# Altium integrated library NSC Filter Switched Capacitor.IntLib: 42 symbols
Pins are listed as number, name and electrical type; pins without a type are passive.

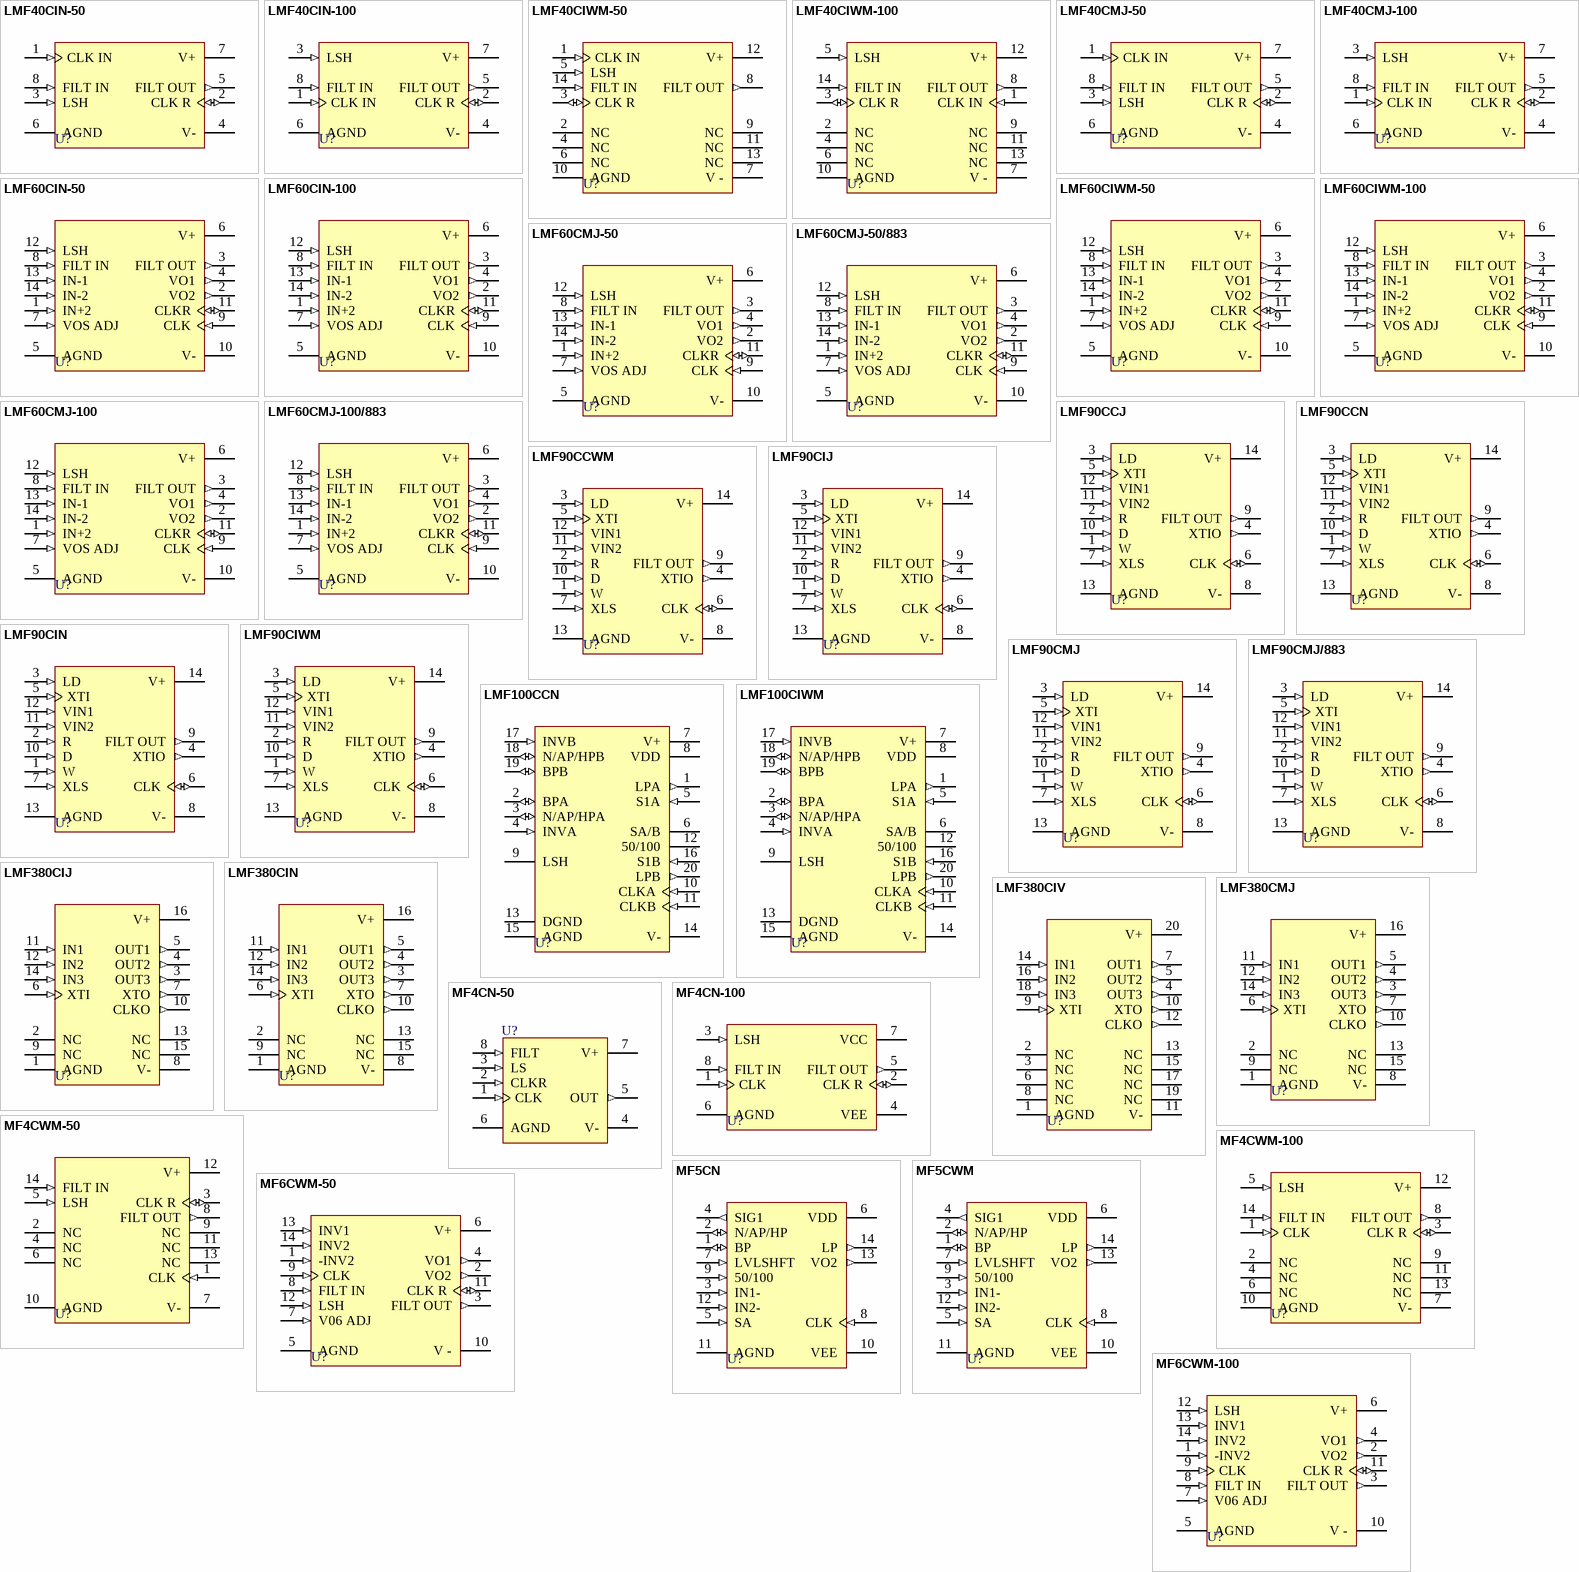
[diagram p0: symbols LMF40CIN-50 to MF6CWM-100]

## LMF40CIN-50
designator U?
High-Performance 4th Order Switched-Capacitor Butterworth Low-Pass Filter; ComponentAvailability: Obsolete; Published: 15-Apr-2002; LatestRevisionDate: 06-Jun-2005; LatestRevisionNote: Stylized 3D Model Added.; DatasheetVersion: 1995; PackageVersion: Sep-1997; PackageReference: N08E; Publisher: Altium Limited; PackageDescription: DIP; 8 Leads; Row Spacing 7.62 mm; Pitch 2.54 mm; ComponentLink1Description: Manufacturer Link; ComponentLink1URL: http://www.national.com/; ComponentLink2Description: Discontinuation Notice; ComponentLink2URL: http://www.national.com/obs/obsolescence.txt
footprint N08E (DIP; 8 Leads; Row Spacing 7.62 mm; Pitch 2.54 mm)
3D model N08E (DIP; 8 Leads; Row Spacing 7.62 mm; Pitch 2.54 mm)
pins: 1 CLK IN (in), 2 CLK R (io), 3 LSH (in), 4 V- (power), 5 FILT OUT (out), 6 AGND (power), 7 V+ (power), 8 FILT IN (in)

## LMF40CIN-100
designator U?
High-Performance 4th Order Switched-Capacitor Butterworth Low-Pass Filter; ComponentAvailability: Obsolete; Published: 15-Apr-2002; LatestRevisionDate: 06-Jun-2005; LatestRevisionNote: Stylized 3D Model Added.; DatasheetVersion: 1995; PackageVersion: Sep-1997; PackageReference: N08E; Publisher: Altium Limited; PackageDescription: DIP; 8 Leads; Row Spacing 7.62 mm; Pitch 2.54 mm; ComponentLink1Description: Manufacturer Link; ComponentLink1URL: http://www.national.com/; ComponentLink2Description: Discontinuation Notice; ComponentLink2URL: http://www.national.com/obs/obsolescence.txt
footprint N08E (DIP; 8 Leads; Row Spacing 7.62 mm; Pitch 2.54 mm)
3D model N08E (DIP; 8 Leads; Row Spacing 7.62 mm; Pitch 2.54 mm)
pins: 1 CLK IN (in), 2 CLK R (io), 3 LSH (in), 4 V- (power), 5 FILT OUT (out), 6 AGND (power), 7 V+ (power), 8 FILT IN (in)

## LMF40CIWM-50
designator U?
High-Performance 4th Order Switched-Capacitor Butterworth Low-Pass Filter; ComponentAvailability: Obsolete; Published: 15-Apr-2002; LatestRevisionDate: 13-Apr-2006; LatestRevisionNote: IPC-7351 Footprint Added.; DatasheetVersion: 1995; PackageVersion: 2000; PackageReference: M14B; Publisher: Altium Limited; PackageDescription: 14-Pin Small Outline Integrated Circuit 1.27 mm Pitch; Code_JEDEC: MS-013-AF; Code_IPC: SOIC127P1030-14; ComponentLink1Description: Manufacturer Link; ComponentLink1URL: http://www.national.com/; ComponentLink2Description: Discontinuation Notice; ComponentLink2URL: http://www.national.com/obs/obsolescence.txt
footprint M14B_N (SOIC, 14-Leads, Body 9x7.5mm, Pitch 1.27mm, IPC Medium Density)
footprint M14B_L (SOIC, 14-Leads, Body 9x7.5mm, Pitch 1.27mm, IPC High Density)
footprint M14B_M (SOIC, 14-Leads, Body 9x7.5mm, Pitch 1.27mm, IPC Low Density)
3D model M14B (14-Pin Small Outline Integrated Circuit 1.27 mm Pitch)
pins: 1 CLK IN (in), 2 NC, 3 CLK R (io), 4 NC, 5 LSH (in), 6 NC, 7 V - (power), 8 FILT OUT (out), 9 NC, 10 AGND (power), 11 NC, 12 V+ (power), 13 NC, 14 FILT IN (in)

## LMF40CIWM-100
designator U?
High-Performance 4th Order Switched-Capacitor Butterworth Low-Pass Filter; ComponentAvailability: Obsolete; Published: 15-Apr-2002; LatestRevisionDate: 13-Apr-2006; LatestRevisionNote: IPC-7351 Footprint Added.; DatasheetVersion: 1995; PackageVersion: 2000; PackageReference: M14B; Publisher: Altium Limited; PackageDescription: 14-Pin Small Outline Integrated Circuit 1.27 mm Pitch; Code_JEDEC: MS-013-AF; Code_IPC: SOIC127P1030-14; ComponentLink1Description: Manufacturer Link; ComponentLink1URL: http://www.national.com/; ComponentLink2Description: Discontinuation Notice; ComponentLink2URL: http://www.national.com/obs/obsolescence.txt
footprint M14B_N (SOIC, 14-Leads, Body 9x7.5mm, Pitch 1.27mm, IPC Medium Density)
footprint M14B_L (SOIC, 14-Leads, Body 9x7.5mm, Pitch 1.27mm, IPC High Density)
footprint M14B_M (SOIC, 14-Leads, Body 9x7.5mm, Pitch 1.27mm, IPC Low Density)
3D model M14B (14-Pin Small Outline Integrated Circuit 1.27 mm Pitch)
pins: 1 CLK IN (in), 2 NC, 3 CLK R (io), 4 NC, 5 LSH (in), 6 NC, 7 V - (power), 8 FILT OUT (out), 9 NC, 10 AGND (power), 11 NC, 12 V+ (power), 13 NC, 14 FILT IN (in)

## LMF40CMJ-50
designator U?
High-Performance 4th Order Switched-Capacitor Butterworth Low-Pass Filter; ComponentAvailability: Obsolete; Published: 15-Apr-2002; LatestRevisionDate: 06-Jun-2005; LatestRevisionNote: Stylized 3D Model Added.; DatasheetVersion: 1995; PackageVersion: 2000; PackageReference: J08A; Publisher: Altium Limited; PackageDescription: DIP; 8 Leads; Row Spacing 7.62 mm; Pitch 2.54 mm; ComponentLink1Description: Manufacturer Link; ComponentLink1URL: http://www.national.com/; ComponentLink2Description: Discontinuation Notice; ComponentLink2URL: http://www.national.com/obs/obsolescence.txt
footprint J08A (DIP; 8 Leads; Row Spacing 7.62 mm; Pitch 2.54 mm)
3D model N08E (DIP; 8 Leads; Row Spacing 7.62 mm; Pitch 2.54 mm)
pins: 1 CLK IN (in), 2 CLK R (io), 3 LSH (in), 4 V- (power), 5 FILT OUT (out), 6 AGND (power), 7 V+ (power), 8 FILT IN (in)

## LMF40CMJ-100
designator U?
High-Performance 4th Order Switched-Capacitor Butterworth Low-Pass Filter; ComponentAvailability: Obsolete; Published: 15-Apr-2002; LatestRevisionDate: 06-Jun-2005; LatestRevisionNote: Stylized 3D Model Added.; DatasheetVersion: 1995; PackageVersion: 2000; PackageReference: J08A; Publisher: Altium Limited; PackageDescription: DIP; 8 Leads; Row Spacing 7.62 mm; Pitch 2.54 mm; ComponentLink1Description: Manufacturer Link; ComponentLink1URL: http://www.national.com/; ComponentLink2Description: Discontinuation Notice; ComponentLink2URL: http://www.national.com/obs/obsolescence.txt
footprint J08A (DIP; 8 Leads; Row Spacing 7.62 mm; Pitch 2.54 mm)
3D model N08E (DIP; 8 Leads; Row Spacing 7.62 mm; Pitch 2.54 mm)
pins: 1 CLK IN (in), 2 CLK R (io), 3 LSH (in), 4 V- (power), 5 FILT OUT (out), 6 AGND (power), 7 V+ (power), 8 FILT IN (in)

## LMF60CIN-50
designator U?
High-Performance 6th Order Switched Capacitor Butterworth Low-Pass Filter; ComponentAvailability: Obsolete; Published: 15-Apr-2002; LatestRevisionDate: 06-Jun-2005; LatestRevisionNote: Stylized 3D Model Added.; DatasheetVersion: May-1996; PackageVersion: 2000; PackageReference: N14A; Publisher: Altium Limited; PackageDescription: DIP; 14 Leads; Row Spacing 7.62 mm; Pitch 2.54 mm; ComponentLink1Description: Manufacturer Link; ComponentLink1URL: http://www.national.com/; ComponentLink2Description: Discontinuation Notice; ComponentLink2URL: http://www.national.com/obs/obsolescence.txt
footprint N14A (DIP; 14 Leads; Row Spacing 7.62 mm; Pitch 2.54 mm)
3D model N14A (DIP; 14 Leads; Row Spacing 7.62 mm; Pitch 2.54 mm)
pins: 1 IN+2 (in), 2 VO2 (out), 3 FILT OUT (out), 4 VO1 (out), 5 AGND (power), 6 V+ (power), 7 VOS ADJ (in), 8 FILT IN (in), 9 CLK (in), 10 V- (power), 11 CLKR (io), 12 LSH (in), 13 IN-1 (in), 14 IN-2 (in)

## LMF60CIN-100
designator U?
High-Performance 6th Order Switched Capacitor Butterworth Low-Pass Filter; ComponentAvailability: Obsolete; Published: 15-Apr-2002; LatestRevisionDate: 06-Jun-2005; LatestRevisionNote: Stylized 3D Model Added.; DatasheetVersion: May-1996; PackageVersion: 2000; PackageReference: N14A; Publisher: Altium Limited; PackageDescription: DIP; 14 Leads; Row Spacing 7.62 mm; Pitch 2.54 mm; ComponentLink1Description: Manufacturer Link; ComponentLink1URL: http://www.national.com/; ComponentLink2Description: Discontinuation Notice; ComponentLink2URL: http://www.national.com/obs/obsolescence.txt
footprint N14A (DIP; 14 Leads; Row Spacing 7.62 mm; Pitch 2.54 mm)
3D model N14A (DIP; 14 Leads; Row Spacing 7.62 mm; Pitch 2.54 mm)
pins: 1 IN+2 (in), 2 VO2 (out), 3 FILT OUT (out), 4 VO1 (out), 5 AGND (power), 6 V+ (power), 7 VOS ADJ (in), 8 FILT IN (in), 9 CLK (in), 10 V- (power), 11 CLKR (io), 12 LSH (in), 13 IN-1 (in), 14 IN-2 (in)

## LMF60CIWM-50
designator U?
High-Performance 6th Order Switched Capacitor Butterworth Low-Pass Filter; ComponentAvailability: Obsolete; Published: 15-Apr-2002; LatestRevisionDate: 13-Apr-2006; LatestRevisionNote: IPC-7351 Footprint Added.; DatasheetVersion: May-1996; PackageVersion: 2000; PackageReference: M14B; Publisher: Altium Limited; PackageDescription: 14-Pin Small Outline Integrated Circuit 1.27 mm Pitch; Code_JEDEC: MS-013-AF; Code_IPC: SOIC127P1030-14; ComponentLink1Description: Manufacturer Link; ComponentLink1URL: http://www.national.com/; ComponentLink2Description: Discontinuation Notice; ComponentLink2URL: http://www.national.com/obs/obsolescence.txt
footprint M14B_N (SOIC, 14-Leads, Body 9x7.5mm, Pitch 1.27mm, IPC Medium Density)
footprint M14B_L (SOIC, 14-Leads, Body 9x7.5mm, Pitch 1.27mm, IPC High Density)
footprint M14B_M (SOIC, 14-Leads, Body 9x7.5mm, Pitch 1.27mm, IPC Low Density)
3D model M14B (14-Pin Small Outline Integrated Circuit 1.27 mm Pitch)
pins: 1 IN+2 (in), 2 VO2 (out), 3 FILT OUT (out), 4 VO1 (out), 5 AGND (power), 6 V+ (power), 7 VOS ADJ (in), 8 FILT IN (in), 9 CLK (in), 10 V- (power), 11 CLKR (io), 12 LSH (in), 13 IN-1 (in), 14 IN-2 (in)

## LMF60CIWM-100
designator U?
High-Performance 6th Order Switched Capacitor Butterworth Low-Pass Filter; ComponentAvailability: Obsolete; Published: 15-Apr-2002; LatestRevisionDate: 13-Apr-2006; LatestRevisionNote: IPC-7351 Footprint Added.; DatasheetVersion: May-1996; PackageVersion: 2000; PackageReference: M14B; Publisher: Altium Limited; PackageDescription: 14-Pin Small Outline Integrated Circuit 1.27 mm Pitch; Code_JEDEC: MS-013-AF; Code_IPC: SOIC127P1030-14; ComponentLink1Description: Manufacturer Link; ComponentLink1URL: http://www.national.com/; ComponentLink2Description: Discontinuation Notice; ComponentLink2URL: http://www.national.com/obs/obsolescence.txt
footprint M14B_N (SOIC, 14-Leads, Body 9x7.5mm, Pitch 1.27mm, IPC Medium Density)
footprint M14B_L (SOIC, 14-Leads, Body 9x7.5mm, Pitch 1.27mm, IPC High Density)
footprint M14B_M (SOIC, 14-Leads, Body 9x7.5mm, Pitch 1.27mm, IPC Low Density)
3D model M14B (14-Pin Small Outline Integrated Circuit 1.27 mm Pitch)
pins: 1 IN+2 (in), 2 VO2 (out), 3 FILT OUT (out), 4 VO1 (out), 5 AGND (power), 6 V+ (power), 7 VOS ADJ (in), 8 FILT IN (in), 9 CLK (in), 10 V- (power), 11 CLKR (io), 12 LSH (in), 13 IN-1 (in), 14 IN-2 (in)

## LMF60CMJ-50
designator U?
High-Performance 6th Order Switched Capacitor Butterworth Low-Pass Filter; ComponentAvailability: Obsolete; Published: 15-Apr-2002; LatestRevisionDate: 06-Jun-2005; LatestRevisionNote: Stylized 3D Model Added.; DatasheetVersion: May-1996; PackageVersion: 2000; PackageReference: J14A; Publisher: Altium Limited; PackageDescription: DIP; 14 Leads; Row Spacing 7.62 mm; Pitch 2.54 mm; ComponentLink1Description: Manufacturer Link; ComponentLink1URL: http://www.national.com/; ComponentLink2Description: Discontinuation Notice; ComponentLink2URL: http://www.national.com/obs/obsolescence.txt
footprint J14A (DIP; 14 Leads; Row Spacing 7.62 mm; Pitch 2.54 mm)
3D model J14A (DIP; 14 Leads; Row Spacing 7.62 mm; Pitch 2.54 mm)
pins: 1 IN+2 (in), 2 VO2 (out), 3 FILT OUT (out), 4 VO1 (out), 5 AGND (power), 6 V+ (power), 7 VOS ADJ (in), 8 FILT IN (in), 9 CLK (in), 10 V- (power), 11 CLKR (io), 12 LSH (in), 13 IN-1 (in), 14 IN-2 (in)

## LMF60CMJ-50/883
designator U?
High-Performance 6th Order Switched Capacitor Butterworth Low-Pass Filter; Published: 15-Apr-2002; LatestRevisionDate: 06-Jun-2005; LatestRevisionNote: Stylized 3D Model Added.; DatasheetVersion: May-1996; PackageVersion: 2000; PackageReference: J14A; Publisher: Altium Limited; PackageDescription: DIP; 14 Leads; Row Spacing 7.62 mm; Pitch 2.54 mm; ComponentLink1Description: Manufacturer Link; ComponentLink1URL: http://www.national.com/
footprint J14A (DIP; 14 Leads; Row Spacing 7.62 mm; Pitch 2.54 mm)
3D model J14A (DIP; 14 Leads; Row Spacing 7.62 mm; Pitch 2.54 mm)
pins: 1 IN+2 (in), 2 VO2 (out), 3 FILT OUT (out), 4 VO1 (out), 5 AGND (power), 6 V+ (power), 7 VOS ADJ (in), 8 FILT IN (in), 9 CLK (in), 10 V- (power), 11 CLKR (io), 12 LSH (in), 13 IN-1 (in), 14 IN-2 (in)

## LMF60CMJ-100
designator U?
High-Performance 6th Order Switched Capacitor Butterworth Low-Pass Filter; Published: 15-Apr-2002; LatestRevisionDate: 06-Jun-2005; LatestRevisionNote: Stylized 3D Model Added.; DatasheetVersion: May-1996; PackageVersion: 2000; PackageReference: J14A; Publisher: Altium Limited; PackageDescription: DIP; 14 Leads; Row Spacing 7.62 mm; Pitch 2.54 mm; ComponentLink1Description: Manufacturer Link; ComponentLink1URL: http://www.national.com/
footprint J14A (DIP; 14 Leads; Row Spacing 7.62 mm; Pitch 2.54 mm)
3D model J14A (DIP; 14 Leads; Row Spacing 7.62 mm; Pitch 2.54 mm)
pins: 1 IN+2 (in), 2 VO2 (out), 3 FILT OUT (out), 4 VO1 (out), 5 AGND (power), 6 V+ (power), 7 VOS ADJ (in), 8 FILT IN (in), 9 CLK (in), 10 V- (power), 11 CLKR (io), 12 LSH (in), 13 IN-1 (in), 14 IN-2 (in)

## LMF60CMJ-100/883
designator U?
High-Performance 6th Order Switched Capacitor Butterworth Low-Pass Filter; Published: 15-Apr-2002; LatestRevisionDate: 06-Jun-2005; LatestRevisionNote: Stylized 3D Model Added.; DatasheetVersion: May-1996; PackageVersion: 2000; PackageReference: J14A; Publisher: Altium Limited; PackageDescription: DIP; 14 Leads; Row Spacing 7.62 mm; Pitch 2.54 mm; ComponentLink1Description: Manufacturer Link; ComponentLink1URL: http://www.national.com/
footprint J14A (DIP; 14 Leads; Row Spacing 7.62 mm; Pitch 2.54 mm)
3D model J14A (DIP; 14 Leads; Row Spacing 7.62 mm; Pitch 2.54 mm)
pins: 1 IN+2 (in), 2 VO2 (out), 3 FILT OUT (out), 4 VO1 (out), 5 AGND (power), 6 V+ (power), 7 VOS ADJ (in), 8 FILT IN (in), 9 CLK (in), 10 V- (power), 11 CLKR (io), 12 LSH (in), 13 IN-1 (in), 14 IN-2 (in)

## LMF90CCJ
designator U?
4th Order Elliptic Notch Filter; Published: 15-Apr-2002; LatestRevisionDate: 06-Jun-2005; LatestRevisionNote: Stylized 3D Model Added.; PackageVersion: 2000; PackageReference: J14A; Publisher: Altium Limited; PackageDescription: DIP; 14 Leads; Row Spacing 7.62 mm; Pitch 2.54 mm; ComponentLink1Description: Manufacturer Link; ComponentLink1URL: http://www.national.com/
footprint J14A (DIP; 14 Leads; Row Spacing 7.62 mm; Pitch 2.54 mm)
3D model J14A (DIP; 14 Leads; Row Spacing 7.62 mm; Pitch 2.54 mm)
pins: 1 W (in), 2 R (in), 3 LD (in), 4 XTIO (out), 5 XTI (in), 6 CLK (io), 7 XLS (in), 8 V- (power), 9 FILT OUT (out), 10 D (in), 11 VIN2 (in), 12 VIN1 (in), 13 AGND (power), 14 V+ (power)

## LMF90CCN
designator U?
4th Order Elliptic Notch Filter; ComponentAvailability: Obsolete; Published: 15-Apr-2002; LatestRevisionDate: 06-Jun-2005; LatestRevisionNote: Stylized 3D Model Added.; PackageVersion: 2000; PackageReference: N14A; Publisher: Altium Limited; PackageDescription: DIP; 14 Leads; Row Spacing 7.62 mm; Pitch 2.54 mm; ComponentLink1Description: Manufacturer Link; ComponentLink1URL: http://www.national.com/; ComponentLink2Description: Discontinuation Notice; ComponentLink2URL: http://www.national.com/obs/obsolescence.txt
footprint N14A (DIP; 14 Leads; Row Spacing 7.62 mm; Pitch 2.54 mm)
3D model N14A (DIP; 14 Leads; Row Spacing 7.62 mm; Pitch 2.54 mm)
pins: 1 W (in), 2 R (in), 3 LD (in), 4 XTIO (out), 5 XTI (in), 6 CLK (io), 7 XLS (in), 8 V- (power), 9 FILT OUT (out), 10 D (in), 11 VIN2 (in), 12 VIN1 (in), 13 AGND (power), 14 V+ (power)

## LMF90CCWM
designator U?
4th Order Elliptic Notch Filter; ComponentAvailability: Obsolete; Published: 15-Apr-2002; LatestRevisionDate: 13-Apr-2006; LatestRevisionNote: IPC-7351 Footprint Added.; PackageVersion: 2000; PackageReference: M14B; Publisher: Altium Limited; PackageDescription: 14-Pin Small Outline Integrated Circuit 1.27 mm Pitch; Code_JEDEC: MS-013-AF; Code_IPC: SOIC127P1030-14; ComponentLink1Description: Manufacturer Link; ComponentLink1URL: http://www.national.com/; ComponentLink2Description: Discontinuation Notice; ComponentLink2URL: http://www.national.com/obs/obsolescence.txt
footprint M14B_N (SOIC, 14-Leads, Body 9x7.5mm, Pitch 1.27mm, IPC Medium Density)
footprint M14B_L (SOIC, 14-Leads, Body 9x7.5mm, Pitch 1.27mm, IPC High Density)
footprint M14B_M (SOIC, 14-Leads, Body 9x7.5mm, Pitch 1.27mm, IPC Low Density)
3D model M14B (14-Pin Small Outline Integrated Circuit 1.27 mm Pitch)
pins: 1 W (in), 2 R (in), 3 LD (in), 4 XTIO (out), 5 XTI (in), 6 CLK (io), 7 XLS (in), 8 V- (power), 9 FILT OUT (out), 10 D (in), 11 VIN2 (in), 12 VIN1 (in), 13 AGND (power), 14 V+ (power)

## LMF90CIJ
designator U?
4th Order Elliptic Notch Filter; ComponentAvailability: Obsolete; Published: 15-Apr-2002; LatestRevisionDate: 06-Jun-2005; LatestRevisionNote: Stylized 3D Model Added.; PackageVersion: 2000; PackageReference: J14A; Publisher: Altium Limited; PackageDescription: DIP; 14 Leads; Row Spacing 7.62 mm; Pitch 2.54 mm; ComponentLink1Description: Manufacturer Link; ComponentLink1URL: http://www.national.com/; ComponentLink2Description: Discontinuation Notice; ComponentLink2URL: http://www.national.com/obs/obsolescence.txt
footprint J14A (DIP; 14 Leads; Row Spacing 7.62 mm; Pitch 2.54 mm)
3D model J14A (DIP; 14 Leads; Row Spacing 7.62 mm; Pitch 2.54 mm)
pins: 1 W (in), 2 R (in), 3 LD (in), 4 XTIO (out), 5 XTI (in), 6 CLK (io), 7 XLS (in), 8 V- (power), 9 FILT OUT (out), 10 D (in), 11 VIN2 (in), 12 VIN1 (in), 13 AGND (power), 14 V+ (power)

## LMF90CIN
designator U?
4th Order Elliptic Notch Filter; ComponentAvailability: Obsolete; Published: 15-Apr-2002; LatestRevisionDate: 06-Jun-2005; LatestRevisionNote: Stylized 3D Model Added.; PackageVersion: 2000; PackageReference: N14A; Publisher: Altium Limited; PackageDescription: DIP; 14 Leads; Row Spacing 7.62 mm; Pitch 2.54 mm; ComponentLink1Description: Manufacturer Link; ComponentLink1URL: http://www.national.com/; ComponentLink2Description: Discontinuation Notice; ComponentLink2URL: http://www.national.com/obs/obsolescence.txt
footprint N14A (DIP; 14 Leads; Row Spacing 7.62 mm; Pitch 2.54 mm)
3D model N14A (DIP; 14 Leads; Row Spacing 7.62 mm; Pitch 2.54 mm)
pins: 1 W (in), 2 R (in), 3 LD (in), 4 XTIO (out), 5 XTI (in), 6 CLK (io), 7 XLS (in), 8 V- (power), 9 FILT OUT (out), 10 D (in), 11 VIN2 (in), 12 VIN1 (in), 13 AGND (power), 14 V+ (power)

## LMF90CIWM
designator U?
4th Order Elliptic Notch Filter; ComponentAvailability: Obsolete; Published: 15-Apr-2002; LatestRevisionDate: 13-Apr-2006; LatestRevisionNote: IPC-7351 Footprint Added.; PackageVersion: 2000; PackageReference: M14B; Publisher: Altium Limited; PackageDescription: 14-Pin Small Outline Integrated Circuit 1.27 mm Pitch; Code_JEDEC: MS-013-AF; Code_IPC: SOIC127P1030-14; ComponentLink1Description: Manufacturer Link; ComponentLink1URL: http://www.national.com/; ComponentLink2Description: Discontinuation Notice; ComponentLink2URL: http://www.national.com/obs/obsolescence.txt
footprint M14B_N (SOIC, 14-Leads, Body 9x7.5mm, Pitch 1.27mm, IPC Medium Density)
footprint M14B_L (SOIC, 14-Leads, Body 9x7.5mm, Pitch 1.27mm, IPC High Density)
footprint M14B_M (SOIC, 14-Leads, Body 9x7.5mm, Pitch 1.27mm, IPC Low Density)
3D model M14B (14-Pin Small Outline Integrated Circuit 1.27 mm Pitch)
pins: 1 W (in), 2 R (in), 3 LD (in), 4 XTIO (out), 5 XTI (in), 6 CLK (io), 7 XLS (in), 8 V- (power), 9 FILT OUT (out), 10 D (in), 11 VIN2 (in), 12 VIN1 (in), 13 AGND (power), 14 V+ (power)

## LMF90CMJ
designator U?
4th Order Elliptic Notch Filter; Published: 15-Apr-2002; LatestRevisionDate: 06-Jun-2005; LatestRevisionNote: Stylized 3D Model Added.; PackageVersion: 2000; PackageReference: J14A; Publisher: Altium Limited; PackageDescription: DIP; 14 Leads; Row Spacing 7.62 mm; Pitch 2.54 mm; ComponentLink1Description: Manufacturer Link; ComponentLink1URL: http://www.national.com/
footprint J14A (DIP; 14 Leads; Row Spacing 7.62 mm; Pitch 2.54 mm)
3D model J14A (DIP; 14 Leads; Row Spacing 7.62 mm; Pitch 2.54 mm)
pins: 1 W (in), 2 R (in), 3 LD (in), 4 XTIO (out), 5 XTI (in), 6 CLK (io), 7 XLS (in), 8 V- (power), 9 FILT OUT (out), 10 D (in), 11 VIN2 (in), 12 VIN1 (in), 13 AGND (power), 14 V+ (power)

## LMF90CMJ/883
designator U?
4th Order Elliptic Notch Filter; ComponentAvailability: Obsolete; Published: 15-Apr-2002; LatestRevisionDate: 06-Jun-2005; LatestRevisionNote: Stylized 3D Model Added.; PackageVersion: 2000; PackageReference: J14A; Publisher: Altium Limited; PackageDescription: DIP; 14 Leads; Row Spacing 7.62 mm; Pitch 2.54 mm; ComponentLink1Description: Manufacturer Link; ComponentLink1URL: http://www.national.com/; ComponentLink2Description: Discontinuation Notice; ComponentLink2URL: http://www.national.com/obs/obsolescence.txt
footprint J14A (DIP; 14 Leads; Row Spacing 7.62 mm; Pitch 2.54 mm)
3D model J14A (DIP; 14 Leads; Row Spacing 7.62 mm; Pitch 2.54 mm)
pins: 1 W (in), 2 R (in), 3 LD (in), 4 XTIO (out), 5 XTI (in), 6 CLK (io), 7 XLS (in), 8 V- (power), 9 FILT OUT (out), 10 D (in), 11 VIN2 (in), 12 VIN1 (in), 13 AGND (power), 14 V+ (power)

## LMF100CCN
designator U?
High-Performance Dual Switched Capacitor Filter; Published: 15-Apr-2002; LatestRevisionDate: 06-Jun-2005; LatestRevisionNote: Stylized 3D Model Added.; DatasheetVersion: Jul-1999; PackageVersion: 2000; PackageReference: N20A; Publisher: Altium Limited; PackageDescription: DIP; 20 Leads; Row Spacing 7.62 mm; Pitch 2.54 mm; Code_JEDEC: MS-001-AD; ComponentLink1Description: Manufacturer Link; ComponentLink1URL: http://www.national.com/; ComponentLink2Description: Datasheet; ComponentLink2URL: http://www.national.com/ds.cgi/LM/LMF100.pdf; ComponentLink3Description: URL Link1; ComponentLink3URL: http://www.national.com/pf/LM/LMF100.html
footprint N20A (DIP; 20 Leads; Row Spacing 7.62 mm; Pitch 2.54 mm)
3D model N20A (DIP; 20 Leads; Row Spacing 7.62 mm; Pitch 2.54 mm)
pins: 1 LPA (out), 2 BPA (io), 3 N/AP/HPA (io), 4 INVA (in), 5 S1A (in), 6 SA/B (power), 7 V+ (power), 8 VDD (power), 9 LSH (power), 10 CLKA (in), 11 CLKB (in), 12 50/100, 13 DGND (power), 14 V- (power), 15 AGND (power), 16 S1B (in), 17 INVB (in), 18 N/AP/HPB (io), 19 BPB (io), 20 LPB (out)

## LMF100CIWM
designator U?
High-Performance Dual Switched Capacitor Filter; Published: 15-Apr-2002; LatestRevisionDate: 13-Apr-2006; LatestRevisionNote: IPC-7351 Footprint Added.; DatasheetVersion: Jul-1999; PackageVersion: 2000; PackageReference: M20B; Publisher: Altium Limited; PackageDescription: 20-Pin Small Outline Integrated Circuit 1.27 mm Pitch; Code_JEDEC: MS-013-AC; Code_IPC: SOIC127P1030-20; ComponentLink1Description: Manufacturer Link; ComponentLink1URL: http://www.national.com/; ComponentLink2Description: Datasheet; ComponentLink2URL: http://www.national.com/ds.cgi/LM/LMF100.pdf; ComponentLink3Description: URL Link1; ComponentLink3URL: http://www.national.com/pf/LM/LMF100.html
footprint M20B_N (SOIC, 20-Leads, Body 12.8x7.5mm, Pitch 1.27mm, IPC Medium Density)
footprint M20B_L (SOIC, 20-Leads, Body 12.8x7.5mm, Pitch 1.27mm, IPC High Density)
footprint M20B_M (SOIC, 20-Leads, Body 12.8x7.5mm, Pitch 1.27mm, IPC Low Density)
3D model M20B (20-Pin Small Outline Integrated Circuit 1.27 mm Pitch)
pins: 1 LPA (out), 2 BPA (io), 3 N/AP/HPA (io), 4 INVA (in), 5 S1A (in), 6 SA/B (power), 7 V+ (power), 8 VDD (power), 9 LSH (power), 10 CLKA (in), 11 CLKB (in), 12 50/100, 13 DGND (power), 14 V- (power), 15 AGND (power), 16 S1B (in), 17 INVB (in), 18 N/AP/HPB (io), 19 BPB (io), 20 LPB (out)

## LMF380CIJ
designator U?
Triple One-Third Octave Swiched-Capacitor Active Filter; ComponentAvailability: Obsolete; Published: 15-Apr-2002; LatestRevisionDate: 06-Jun-2005; LatestRevisionNote: Stylized 3D Model Added.; DatasheetVersion: Nov-1995; PackageVersion: 2000; PackageReference: J16A; Publisher: Altium Limited; PackageDescription: DIP; 16 Leads; Row Spacing 7.62 mm; Pitch 2.54 mm; ComponentLink1Description: Manufacturer Link; ComponentLink1URL: http://www.national.com/; ComponentLink2Description: Discontinuation Notice; ComponentLink2URL: http://www.national.com/obs/obsolescence.txt
footprint J16A (DIP; 16 Leads; Row Spacing 7.62 mm; Pitch 2.54 mm)
3D model J16A (DIP; 16 Leads; Row Spacing 7.62 mm; Pitch 2.54 mm)
pins: 1 AGND (power), 2 NC, 3 OUT3 (out), 4 OUT2 (out), 5 OUT1 (out), 6 XTI (in), 7 XTO (out), 8 V- (power), 9 NC, 10 CLKO (out), 11 IN1 (in), 12 IN2 (in), 13 NC, 14 IN3 (in), 15 NC, 16 V+ (power)

## LMF380CIN
designator U?
Triple One-Third Octave Swiched-Capacitor Active Filter; ComponentAvailability: Obsolete; Published: 15-Apr-2002; LatestRevisionDate: 06-Jun-2005; LatestRevisionNote: Stylized 3D Model Added.; DatasheetVersion: Nov-1995; PackageVersion: 2000; PackageReference: N16E; Publisher: Altium Limited; PackageDescription: DIP; 16 Leads; Row Spacing 7.62 mm; Pitch 2.54 mm; ComponentLink1Description: Manufacturer Link; ComponentLink1URL: http://www.national.com/; ComponentLink2Description: Discontinuation Notice; ComponentLink2URL: http://www.national.com/obs/obsolescence.txt
footprint N16E (DIP; 16 Leads; Row Spacing 7.62 mm; Pitch 2.54 mm)
3D model J16A (DIP; 16 Leads; Row Spacing 7.62 mm; Pitch 2.54 mm)
pins: 1 AGND (power), 2 NC, 3 OUT3 (out), 4 OUT2 (out), 5 OUT1 (out), 6 XTI (in), 7 XTO (out), 8 V- (power), 9 NC, 10 CLKO (out), 11 IN1 (in), 12 IN2 (in), 13 NC, 14 IN3 (in), 15 NC, 16 V+ (power)

## LMF380CIV
designator U?
Triple One-Third Octave Swiched-Capacitor Active Filter; Published: 15-Apr-2002; LatestRevisionDate: 13-Apr-2006; LatestRevisionNote: IPC-7351 Footprint Added.; DatasheetVersion: Nov-1995; PackageVersion: 1996; PackageReference: V20A; Publisher: Altium Limited; PackageDescription: 20-Pin Leaded Chip Carrier 1.27 mm Pitch; Code_IPC: PLCC-20; ComponentLink1Description: Manufacturer Link; ComponentLink1URL: http://www.national.com/
footprint V20A_N (Leaded Chip Carrier, 20-Leads, Body 9x9mm, Pitch 1.27mm, IPC Medium Density)
footprint V20A_L (Leaded Chip Carrier, 20-Leads, Body 9x9mm, Pitch 1.27mm, IPC High Density)
footprint V20A_M (Leaded Chip Carrier, 20-Leads, Body 9x9mm, Pitch 1.27mm, IPC Low Density)
3D model LMF380-V20A (20-Pin Leaded Chip Carrier 1.27 mm Pitch)
pins: 1 AGND (power), 2 NC, 3 NC, 4 OUT3 (out), 5 OUT2 (out), 6 NC, 7 OUT1 (out), 8 NC, 9 XTI (in), 10 XTO (out), 11 V- (power), 12 CLKO (out), 13 NC, 14 IN1 (in), 15 NC, 16 IN2 (in), 17 NC, 18 IN3 (in), 19 NC, 20 V+ (power)

## LMF380CMJ
designator U?
Triple One-Third Octave Swiched-Capacitor Active Filter; Published: 15-Apr-2002; LatestRevisionDate: 06-Jun-2005; LatestRevisionNote: Stylized 3D Model Added.; DatasheetVersion: Nov-1995; PackageVersion: 2000; PackageReference: J16A; Publisher: Altium Limited; PackageDescription: DIP; 16 Leads; Row Spacing 7.62 mm; Pitch 2.54 mm; ComponentLink1Description: Manufacturer Link; ComponentLink1URL: http://www.national.com/
footprint J16A (DIP; 16 Leads; Row Spacing 7.62 mm; Pitch 2.54 mm)
3D model J16A (DIP; 16 Leads; Row Spacing 7.62 mm; Pitch 2.54 mm)
pins: 1 AGND (power), 2 NC, 3 OUT3 (out), 4 OUT2 (out), 5 OUT1 (out), 6 XTI (in), 7 XTO (out), 8 V- (power), 9 NC, 10 CLKO (out), 11 IN1 (in), 12 IN2 (in), 13 NC, 14 IN3 (in), 15 NC, 16 V+ (power)

## MF4CN-50
designator U?
4th Order Switched Capacitor Butterworth Low-Pass Filter; ComponentAvailability: Obsolete; Published: 15-Apr-2002; LatestRevisionDate: 06-Jun-2005; LatestRevisionNote: Stylized 3D Model Added.; DatasheetVersion: Jul-1999; PackageVersion: Sep-1997; PackageReference: N08E; Publisher: Altium Limited; PackageDescription: DIP; 8 Leads; Row Spacing 7.62 mm; Pitch 2.54 mm; ComponentLink1Description: Manufacturer Link; ComponentLink1URL: http://www.national.com/; ComponentLink2Description: Datasheet; ComponentLink2URL: http://www.national.com/ds.cgi/MF/MF4.pdf; ComponentLink3Description: Discontinuation Notice; ComponentLink3URL: http://www.national.com/obs/obsolescence.txt; ComponentLink4Description: URL Link1; ComponentLink4URL: http://www.national.com/pf/MF/MF4.html
footprint N08E (DIP; 8 Leads; Row Spacing 7.62 mm; Pitch 2.54 mm)
3D model N08E (DIP; 8 Leads; Row Spacing 7.62 mm; Pitch 2.54 mm)
pins: 1 CLK (in), 2 CLKR (in), 3 LS (in), 4 V- (power), 5 OUT (out), 6 AGND, 7 V+ (power), 8 FILT (in)

## MF4CN-100
designator U?
4th Order Switched Capacitor Butterworth Low-Pass Filter; ComponentAvailability: Obsolete; Published: 15-Apr-2002; LatestRevisionDate: 06-Jun-2005; LatestRevisionNote: Stylized 3D Model Added.; DatasheetVersion: 1995; PackageVersion: Sep-1997; PackageReference: N08E; Publisher: Altium Limited; PackageDescription: DIP; 8 Leads; Row Spacing 7.62 mm; Pitch 2.54 mm; ComponentLink1Description: Manufacturer Link; ComponentLink1URL: http://www.national.com/; ComponentLink2Description: Discontinuation Notice; ComponentLink2URL: http://www.national.com/obs/obsolescence.txt; ComponentLink3Description: URL Link1; ComponentLink3URL: http://www.national.com/pf/MF/MF4.html
footprint N08E (DIP; 8 Leads; Row Spacing 7.62 mm; Pitch 2.54 mm)
3D model N08E (DIP; 8 Leads; Row Spacing 7.62 mm; Pitch 2.54 mm)
pins: 1 CLK (in), 2 CLK R (io), 3 LSH (in), 4 VEE (power), 5 FILT OUT (out), 6 AGND (power), 7 VCC (power), 8 FILT IN (in)

## MF4CWM-50
designator U?
6th Order Switched Capacitor Butterworth Low-Pass Filter; ComponentAvailability: Obsolete; Published: 15-Apr-2002; LatestRevisionDate: 13-Apr-2006; LatestRevisionNote: IPC-7351 Footprint Added.; DatasheetVersion: 1995; PackageVersion: 2000; PackageReference: M14B; Publisher: Altium Limited; PackageDescription: 14-Pin Small Outline Integrated Circuit 1.27 mm Pitch; Code_JEDEC: MS-013-AF; Code_IPC: SOIC127P1030-14; ComponentLink1Description: Manufacturer Link; ComponentLink1URL: http://www.national.com/; ComponentLink2Description: Discontinuation Notice; ComponentLink2URL: http://www.national.com/obs/obsolescence.txt; ComponentLink3Description: URL Link1; ComponentLink3URL: http://www.national.com/pf/MF/MF4.html
footprint M14B_N (SOIC, 14-Leads, Body 9x7.5mm, Pitch 1.27mm, IPC Medium Density)
footprint M14B_L (SOIC, 14-Leads, Body 9x7.5mm, Pitch 1.27mm, IPC High Density)
footprint M14B_M (SOIC, 14-Leads, Body 9x7.5mm, Pitch 1.27mm, IPC Low Density)
3D model M14B (14-Pin Small Outline Integrated Circuit 1.27 mm Pitch)
pins: 1 CLK (in), 2 NC, 3 CLK R (io), 4 NC, 5 LSH (in), 6 NC, 7 V- (power), 8 FILT OUT (out), 9 NC, 10 AGND (power), 11 NC, 12 V+ (power), 13 NC, 14 FILT IN (in)

## MF4CWM-100
designator U?
5th Order Switched Capacitor Butterworth Low-Pass Filter; ComponentAvailability: Obsolete; Published: 15-Apr-2002; LatestRevisionDate: 13-Apr-2006; LatestRevisionNote: IPC-7351 Footprint Added.; DatasheetVersion: 1995; PackageVersion: 2000; PackageReference: M14B; Publisher: Altium Limited; PackageDescription: 14-Pin Small Outline Integrated Circuit 1.27 mm Pitch; Code_JEDEC: MS-013-AF; Code_IPC: SOIC127P1030-14; ComponentLink1Description: Manufacturer Link; ComponentLink1URL: http://www.national.com/; ComponentLink2Description: Discontinuation Notice; ComponentLink2URL: http://www.national.com/obs/obsolescence.txt; ComponentLink3Description: URL Link1; ComponentLink3URL: http://www.national.com/pf/MF/MF4.html
footprint M14B_N (SOIC, 14-Leads, Body 9x7.5mm, Pitch 1.27mm, IPC Medium Density)
footprint M14B_L (SOIC, 14-Leads, Body 9x7.5mm, Pitch 1.27mm, IPC High Density)
footprint M14B_M (SOIC, 14-Leads, Body 9x7.5mm, Pitch 1.27mm, IPC Low Density)
3D model M14B (14-Pin Small Outline Integrated Circuit 1.27 mm Pitch)
pins: 1 CLK (in), 2 NC, 3 CLK R (io), 4 NC, 5 LSH (in), 6 NC, 7 V- (power), 8 FILT OUT (out), 9 NC, 10 AGND (power), 11 NC, 12 V+ (power), 13 NC, 14 FILT IN (in)

## MF5CN
designator U?
Universal Monolithic Switched Capacitor Filter; ComponentAvailability: Obsolete; Published: 15-Apr-2002; LatestRevisionDate: 06-Jun-2005; LatestRevisionNote: Stylized 3D Model Added.; DatasheetVersion: Feb-1995; PackageVersion: 2000; PackageReference: N14A; Publisher: Altium Limited; PackageDescription: DIP; 14 Leads; Row Spacing 7.62 mm; Pitch 2.54 mm; ComponentLink1Description: Manufacturer Link; ComponentLink1URL: http://www.national.com/; ComponentLink2Description: Datasheet; ComponentLink2URL: http://www.national.com/ds.cgi/MF/MF5.pdf; ComponentLink3Description: Discontinuation Notice; ComponentLink3URL: http://www.national.com/obs/obsolescence.txt; ComponentLink4Description: URL Link1; ComponentLink4URL: http://www.national.com/pf/MF/MF5.html
footprint N14A (DIP; 14 Leads; Row Spacing 7.62 mm; Pitch 2.54 mm)
3D model N14A (DIP; 14 Leads; Row Spacing 7.62 mm; Pitch 2.54 mm)
pins: 1 BP (io), 2 N/AP/HP (io), 3 IN1- (in), 4 SIG1 (out), 5 SA (in), 6 VDD (power), 7 LVLSHFT (in), 8 CLK (in), 9 50/100 (in), 10 VEE (power), 11 AGND, 12 IN2- (in), 13 VO2 (out), 14 LP (out)

## MF5CWM
designator U?
Universal Monolithic Switched Capacitor Filter; ComponentAvailability: Obsolete; Published: 15-Apr-2002; LatestRevisionDate: 13-Apr-2006; LatestRevisionNote: IPC-7351 Footprint Added.; DatasheetVersion: Feb-1995; PackageVersion: 2000; PackageReference: M14B; Publisher: Altium Limited; PackageDescription: 14-Pin Small Outline Integrated Circuit 1.27 mm Pitch; Code_JEDEC: MS-013-AF; Code_IPC: SOIC127P1030-14; ComponentLink1Description: Manufacturer Link; ComponentLink1URL: http://www.national.com/; ComponentLink2Description: Datasheet; ComponentLink2URL: http://www.national.com/ds.cgi/MF/MF5.pdf; ComponentLink3Description: Discontinuation Notice; ComponentLink3URL: http://www.national.com/obs/obsolescence.txt; ComponentLink4Description: URL Link1; ComponentLink4URL: http://www.national.com/pf/MF/MF5.html
footprint M14B_N (SOIC, 14-Leads, Body 9x7.5mm, Pitch 1.27mm, IPC Medium Density)
footprint M14B_L (SOIC, 14-Leads, Body 9x7.5mm, Pitch 1.27mm, IPC High Density)
footprint M14B_M (SOIC, 14-Leads, Body 9x7.5mm, Pitch 1.27mm, IPC Low Density)
3D model M14B (14-Pin Small Outline Integrated Circuit 1.27 mm Pitch)
pins: 1 BP (io), 2 N/AP/HP (io), 3 IN1- (in), 4 SIG1 (out), 5 SA (in), 6 VDD (power), 7 LVLSHFT (in), 8 CLK (in), 9 50/100 (in), 10 VEE (power), 11 AGND, 12 IN2- (in), 13 VO2 (out), 14 LP (out)

## MF6CWM-50
designator U?
6th Order Switched Capacitor Butterworth Low-Pass Filter; ComponentAvailability: Obsolete; Published: 15-Apr-2002; LatestRevisionDate: 13-Apr-2006; LatestRevisionNote: IPC-7351 Footprint Added.; DatasheetVersion: Jun-1999; PackageVersion: 2000; PackageReference: M14B; Publisher: Altium Limited; PackageDescription: 14-Pin Small Outline Integrated Circuit 1.27 mm Pitch; Code_JEDEC: MS-013-AF; Code_IPC: SOIC127P1030-14; ComponentLink1Description: Manufacturer Link; ComponentLink1URL: http://www.national.com/; ComponentLink2Description: Datasheet; ComponentLink2URL: http://www.national.com/ds.cgi/MF/MF6.pdf; ComponentLink3Description: Discontinuation Notice; ComponentLink3URL: http://www.national.com/obs/obsolescence.txt; ComponentLink4Description: URL Link1; ComponentLink4URL: http://www.national.com/pf/MF/MF6.html
footprint M14B_N (SOIC, 14-Leads, Body 9x7.5mm, Pitch 1.27mm, IPC Medium Density)
footprint M14B_L (SOIC, 14-Leads, Body 9x7.5mm, Pitch 1.27mm, IPC High Density)
footprint M14B_M (SOIC, 14-Leads, Body 9x7.5mm, Pitch 1.27mm, IPC Low Density)
3D model M14B (14-Pin Small Outline Integrated Circuit 1.27 mm Pitch)
pins: 1 -INV2 (in), 2 VO2 (out), 3 FILT OUT (out), 4 VO1 (out), 5 AGND (power), 6 V+ (power), 7 V06 ADJ (in), 8 FILT IN (in), 9 CLK (in), 10 V - (power), 11 CLK R (io), 12 LSH (in), 13 INV1 (in), 14 INV2 (in)

## MF6CWM-100
designator U?
6th Order Switched Capacitor Butterworth Low-Pass Filter; ComponentAvailability: Obsolete; Published: 15-Apr-2002; LatestRevisionDate: 13-Apr-2006; LatestRevisionNote: IPC-7351 Footprint Added.; DatasheetVersion: Jun-1999; PackageVersion: 2000; PackageReference: M14B; Publisher: Altium Limited; PackageDescription: 14-Pin Small Outline Integrated Circuit 1.27 mm Pitch; Code_JEDEC: MS-013-AF; Code_IPC: SOIC127P1030-14; ComponentLink1Description: Manufacturer Link; ComponentLink1URL: http://www.national.com/; ComponentLink2Description: Datasheet; ComponentLink2URL: http://www.national.com/ds.cgi/MF/MF6.pdf; ComponentLink3Description: Discontinuation Notice; ComponentLink3URL: http://www.national.com/obs/obsolescence.txt; ComponentLink4Description: URL Link1; ComponentLink4URL: http://www.national.com/pf/MF/MF6.html
footprint M14B_N (SOIC, 14-Leads, Body 9x7.5mm, Pitch 1.27mm, IPC Medium Density)
footprint M14B_L (SOIC, 14-Leads, Body 9x7.5mm, Pitch 1.27mm, IPC High Density)
footprint M14B_M (SOIC, 14-Leads, Body 9x7.5mm, Pitch 1.27mm, IPC Low Density)
3D model M14B (14-Pin Small Outline Integrated Circuit 1.27 mm Pitch)
pins: 1 -INV2 (in), 2 VO2 (out), 3 FILT OUT (out), 4 VO1 (out), 5 AGND (power), 6 V+ (power), 7 V06 ADJ (in), 8 FILT IN (in), 9 CLK (in), 10 V - (power), 11 CLK R (io), 12 LSH (in), 13 INV1 (in), 14 INV2 (in)

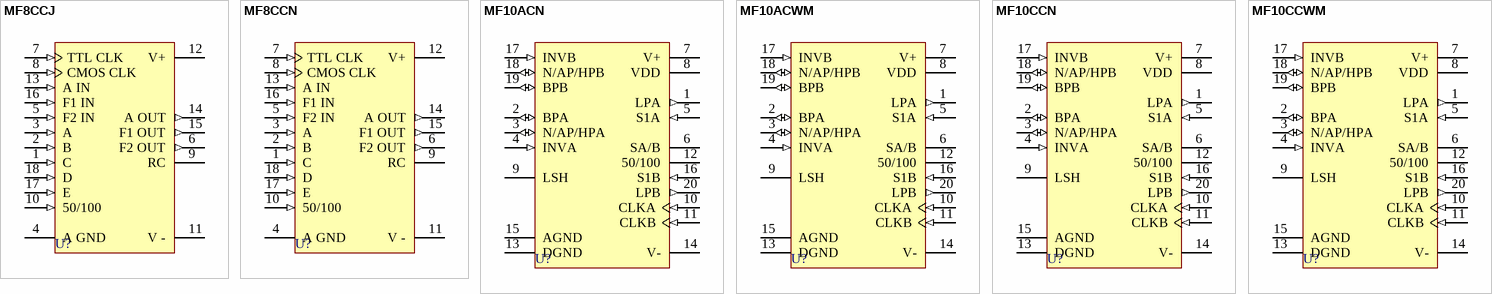
[diagram p1: symbols MF8CCJ to MF10CCWM]

## MF8CCJ
designator U?
4th Order Swiched Capacitor Bandpass Filter; ComponentAvailability: Obsolete; Published: 15-Apr-2002; LatestRevisionDate: 06-Jun-2005; LatestRevisionNote: Stylized 3D Model Added.; DatasheetVersion: Jan-1995; PackageVersion: 1995; PackageReference: J18A; Publisher: Altium Limited; PackageDescription: DIP; 18 Leads; Row Spacing 7.62 mm; Pitch 2.54 mm; ComponentLink1Description: Manufacturer Link; ComponentLink1URL: http://www.national.com/; ComponentLink2Description: Discontinuation Notice; ComponentLink2URL: http://www.national.com/obs/obsolescence.txt
footprint J18A (DIP; 18 Leads; Row Spacing 7.62 mm; Pitch 2.54 mm)
3D model J18A (DIP; 18 Leads; Row Spacing 7.62 mm; Pitch 2.54 mm)
pins: 1 C (in), 2 B (in), 3 A (in), 4 A GND (power), 5 F2 IN (in), 6 F2 OUT (out), 7 TTL CLK (in), 8 CMOS CLK (in), 9 RC, 10 50/100 (in), 11 V - (power), 12 V+ (power), 13 A IN (in), 14 A OUT (out), 15 F1 OUT (out), 16 F1 IN (in), 17 E (in), 18 D (in)

## MF8CCN
designator U?
4th Order Swiched Capacitor Bandpass Filter; ComponentAvailability: Obsolete; Published: 15-Apr-2002; LatestRevisionDate: 06-Jun-2005; LatestRevisionNote: Stylized 3D Model Added.; DatasheetVersion: Jan-1995; PackageVersion: 1995; PackageReference: N18A; Publisher: Altium Limited; PackageDescription: DIP; 18 Leads; Row Spacing 7.62 mm; Pitch 2.54 mm; Code_JEDEC: MS-001-BC; ComponentLink1Description: Manufacturer Link; ComponentLink1URL: http://www.national.com/; ComponentLink2Description: Discontinuation Notice; ComponentLink2URL: http://www.national.com/obs/obsolescence.txt
footprint N18A (DIP; 18 Leads; Row Spacing 7.62 mm; Pitch 2.54 mm)
3D model N18A (DIP; 18 Leads; Row Spacing 7.62 mm; Pitch 2.54 mm)
pins: 1 C (in), 2 B (in), 3 A (in), 4 A GND (power), 5 F2 IN (in), 6 F2 OUT (out), 7 TTL CLK (in), 8 CMOS CLK (in), 9 RC, 10 50/100 (in), 11 V - (power), 12 V+ (power), 13 A IN (in), 14 A OUT (out), 15 F1 OUT (out), 16 F1 IN (in), 17 E (in), 18 D (in)

## MF10ACN
designator U?
Universal Monolithic Dual Switched Capacitor Filter; Published: 15-Apr-2002; LatestRevisionDate: 06-Jun-2005; LatestRevisionNote: Stylized 3D Model Added.; DatasheetVersion: Jun-1999; PackageVersion: 2000; PackageReference: N20A; Publisher: Altium Limited; PackageDescription: DIP; 20 Leads; Row Spacing 7.62 mm; Pitch 2.54 mm; Code_JEDEC: MS-001-AD; ComponentLink1Description: Manufacturer Link; ComponentLink1URL: http://www.national.com/; ComponentLink2Description: Datasheet; ComponentLink2URL: http://www.national.com/ds.cgi/MF/MF10.pdf; ComponentLink3Description: URL Link1; ComponentLink3URL: http://www.national.com/pf/MF/MF10.html
footprint N20A (DIP; 20 Leads; Row Spacing 7.62 mm; Pitch 2.54 mm)
3D model N20A (DIP; 20 Leads; Row Spacing 7.62 mm; Pitch 2.54 mm)
pins: 1 LPA (out), 2 BPA (io), 3 N/AP/HPA (io), 4 INVA (in), 5 S1A (in), 6 SA/B (power), 7 V+ (power), 8 VDD (power), 9 LSH (power), 10 CLKA (in), 11 CLKB (in), 12 50/100, 13 DGND (power), 14 V- (power), 15 AGND (power), 16 S1B (in), 17 INVB (in), 18 N/AP/HPB (io), 19 BPB (io), 20 LPB (out)

## MF10ACWM
designator U?
Universal Monolithic Dual Switched Capacitor Filter; ComponentAvailability: Obsolete; Published: 15-Apr-2002; LatestRevisionDate: 13-Apr-2006; LatestRevisionNote: IPC-7351 Footprint Added.; DatasheetVersion: Jun-1999; PackageVersion: 2000; PackageReference: M20B; Publisher: Altium Limited; PackageDescription: 20-Pin Small Outline Integrated Circuit 1.27 mm Pitch; Code_JEDEC: MS-013-AC; Code_IPC: SOIC127P1030-20; ComponentLink1Description: Manufacturer Link; ComponentLink1URL: http://www.national.com/; ComponentLink2Description: Datasheet; ComponentLink2URL: http://www.national.com/ds.cgi/MF/MF10.pdf; ComponentLink3Description: Discontinuation Notice; ComponentLink3URL: http://www.national.com/obs/obsolescence.txt; ComponentLink4Description: URL Link1; ComponentLink4URL: http://www.national.com/pf/MF/MF10.html
footprint M20B_N (SOIC, 20-Leads, Body 12.8x7.5mm, Pitch 1.27mm, IPC Medium Density)
footprint M20B_L (SOIC, 20-Leads, Body 12.8x7.5mm, Pitch 1.27mm, IPC High Density)
footprint M20B_M (SOIC, 20-Leads, Body 12.8x7.5mm, Pitch 1.27mm, IPC Low Density)
3D model M20B (20-Pin Small Outline Integrated Circuit 1.27 mm Pitch)
pins: 1 LPA (out), 2 BPA (io), 3 N/AP/HPA (io), 4 INVA (in), 5 S1A (in), 6 SA/B (power), 7 V+ (power), 8 VDD (power), 9 LSH (power), 10 CLKA (in), 11 CLKB (in), 12 50/100, 13 DGND (power), 14 V- (power), 15 AGND (power), 16 S1B (in), 17 INVB (in), 18 N/AP/HPB (io), 19 BPB (io), 20 LPB (out)

## MF10CCN
designator U?
Universal Monolithic Dual Switched Capacitor Filter; Published: 15-Apr-2002; LatestRevisionDate: 06-Jun-2005; LatestRevisionNote: Stylized 3D Model Added.; DatasheetVersion: Jun-1999; PackageVersion: 2000; PackageReference: N20A; Publisher: Altium Limited; PackageDescription: DIP; 20 Leads; Row Spacing 7.62 mm; Pitch 2.54 mm; Code_JEDEC: MS-001-AD; ComponentLink1Description: Manufacturer Link; ComponentLink1URL: http://www.national.com/; ComponentLink2Description: Datasheet; ComponentLink2URL: http://www.national.com/ds.cgi/MF/MF10.pdf; ComponentLink3Description: URL Link1; ComponentLink3URL: http://www.national.com/pf/MF/MF10.html
footprint N20A (DIP; 20 Leads; Row Spacing 7.62 mm; Pitch 2.54 mm)
3D model N20A (DIP; 20 Leads; Row Spacing 7.62 mm; Pitch 2.54 mm)
pins: 1 LPA (out), 2 BPA (io), 3 N/AP/HPA (io), 4 INVA (in), 5 S1A (in), 6 SA/B (power), 7 V+ (power), 8 VDD (power), 9 LSH (power), 10 CLKA (in), 11 CLKB (in), 12 50/100, 13 DGND (power), 14 V- (power), 15 AGND (power), 16 S1B (in), 17 INVB (in), 18 N/AP/HPB (io), 19 BPB (io), 20 LPB (out)

## MF10CCWM
designator U?
Universal Monolithic Dual Switched Capacitor Filter; Published: 15-Apr-2002; LatestRevisionDate: 13-Apr-2006; LatestRevisionNote: IPC-7351 Footprint Added.; DatasheetVersion: Jun-1999; PackageVersion: 2000; PackageReference: M20B; Publisher: Altium Limited; PackageDescription: 20-Pin Small Outline Integrated Circuit 1.27 mm Pitch; Code_JEDEC: MS-013-AC; Code_IPC: SOIC127P1030-20; ComponentLink1Description: Manufacturer Link; ComponentLink1URL: http://www.national.com/; ComponentLink2Description: Datasheet; ComponentLink2URL: http://www.national.com/ds.cgi/MF/MF10.pdf; ComponentLink3Description: URL Link1; ComponentLink3URL: http://www.national.com/pf/MF/MF10.html
footprint M20B_N (SOIC, 20-Leads, Body 12.8x7.5mm, Pitch 1.27mm, IPC Medium Density)
footprint M20B_L (SOIC, 20-Leads, Body 12.8x7.5mm, Pitch 1.27mm, IPC High Density)
footprint M20B_M (SOIC, 20-Leads, Body 12.8x7.5mm, Pitch 1.27mm, IPC Low Density)
3D model M20B (20-Pin Small Outline Integrated Circuit 1.27 mm Pitch)
pins: 1 LPA (out), 2 BPA (io), 3 N/AP/HPA (io), 4 INVA (in), 5 S1A (in), 6 SA/B (power), 7 V+ (power), 8 VDD (power), 9 LSH (power), 10 CLKA (in), 11 CLKB (in), 12 50/100, 13 DGND (power), 14 V- (power), 15 AGND (power), 16 S1B (in), 17 INVB (in), 18 N/AP/HPB (io), 19 BPB (io), 20 LPB (out)